# EAGLE library part CONNETTORI_0171_PH127-205DF055G00A (library Arduino-Neutrino-082)
2x5 PASSO 1,27
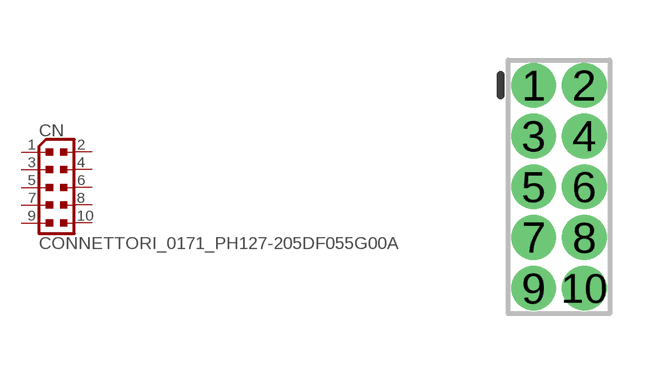
[diagram p0: symbol with the pads of CONNETTORI_PINHEAD-2X5-P127; footprint CONNETTORI_PINHEAD-2X5-P127]

Designator prefix CN

## CONNETTORI_0171_PH127-205DF055G00A (VALUE: PINHEAD-2x5-P1.27)  [CONNETTORI_PINHEAD-2X5-P127]
1  1  pas
2  2  pas
3  3  pas
4  4  pas
5  5  pas
6  6  pas
7  7  pas
8  8  pas
9  9  pas
10  10  pas

## Footprint CONNETTORI_PINHEAD-2X5-P127 (pad centres in mm)
drill 0.61 pad 1.016: 1 -0.635,2.54; 2 0.635,2.54; 3 -0.635,1.27; 4 0.635,1.27; 5 -0.635,0; 6 0.635,0; 7 -0.635,-1.27; 8 0.635,-1.27; 9 -0.635,-2.54; 10 0.635,-2.54